# Altium schematic symbol library yahia.SchLib: 10 symbols
Pins are listed as number, name and electrical type; pins without a type are passive.

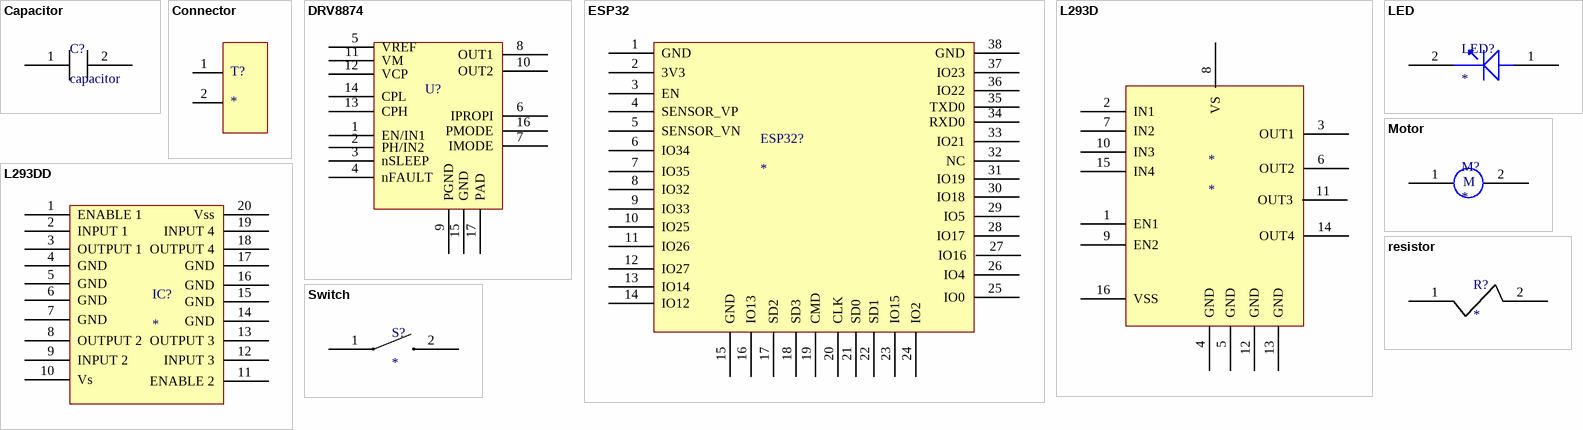
[diagram p0: symbols Capacitor to Switch]

## Capacitor
designator C?, comment capacitor
footprint Capacitor0602
pins: 1, 2

## Connector
designator T?
footprint Connector
pins: 1, 2

## DRV8874
designator U?
Manufacturer: Texas Instruments; Supplier: LCSC
footprint DRV8874
pins: 1 EN/IN1 , 2 PH/IN2, 3 nSLEEP, 4 nFAULT, 5 VREF, 6 IPROPI, 7 IMODE, 8 OUT1, 9 PGND, 10 OUT2, 11 VM, 12 VCP, 13 CPH, 14 CPL, 15 GND, 16 PMODE, 17 PAD

## ESP32
designator ESP32?
footprint ESP32
pins: 1 GND, 2 3V3, 3 EN, 4 SENSOR_VP, 5 SENSOR_VN, 6 IO34, 7 IO35, 8 IO32, 9 IO33, 10 IO25, 11 IO26, 12 IO27, 13 IO14, 14 IO12, 15 GND, 16 IO13, 17 SD2, 18 SD3, 19 CMD, 20 CLK, 21 SD0, 22 SD1, 23 IO15, 24 IO2, 25 IO0, 26 IO4, 27 IO16, 28 IO17, 29 IO5, 30 IO18, 31 IO19, 32 NC, 33 IO21, 34 RXD0, 35 TXD0, 36 IO22, 37 IO23, 38 GND

## L293D
designator *
footprint L293D
pins: 1 EN1, 2 IN1, 3 OUT1, 4 GND, 5 GND, 6 OUT2, 7 IN2, 8 VS, 9 EN2, 10 IN3, 11 OUT3, 12 GND, 13 GND, 14 OUT4, 15 IN4, 16 VSS

## L293DD
designator IC?
footprint L293DD
pins: 1 ENABLE 1, 2 INPUT 1, 3 OUTPUT 1, 4 GND, 5 GND, 6 GND, 7 GND, 8 OUTPUT 2, 9 INPUT 2, 10 Vs, 11 ENABLE 2, 12 INPUT 3, 13 OUTPUT 3, 14 GND, 15 GND, 16 GND, 17 GND, 18 OUTPUT 4, 19 INPUT 4, 20 Vss

## LED
designator LED?
footprint LED
pins: 1, 2

## Motor
designator M?
footprint Motor
pins: 1, 2
text: M

## resistor
designator R?
footprint Resistor0603
pins: 1, 2

## Switch
designator S?
footprint Swicth
pins: 1, 2